# Altium schematic symbol library ACS712ELCTR-30A-T.SchLib: 2 symbols
Pins are listed as number, name and electrical type; pins without a type are passive.

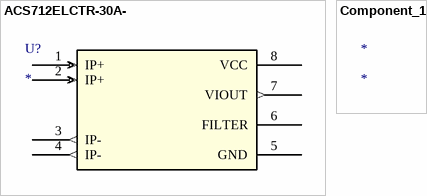
[diagram p0: symbols ACS712ELCTR-30A- to Component_1]

## ACS712ELCTR-30A-
designator U?
Imported; Manufacturer_Part_Number: ACS712ELCTR-30A-T; Vendor: Allegro Microsystems Inc.; Built_By: EMA_UL_Team; C: Copyright (C) 2015 Accelerated Designs. All rights reserved; RefDes: RefDes; Type: DEV; Value: Value
footprint SOIC-8
pins: 1 IP+ (in), 2 IP+ (in), 3 IP- (out), 4 IP- (out), 5 GND (power), 6 FILTER, 7 VIOUT (out), 8 VCC (power)

## Component_1
designator *